# EAGLE library part PCI-120-1.27MM-REC-SMT (library con-amp-te-pci)
TE CONNECTIVITY / AMP: 5145098-1 Connector, PCI Series, Card Edge, Receptacle, 120 pin, 1.27 mm, Surface Mount No. of Contacts: 120 Contact Plating: Gold Plated Contacts Gender: Receptacle Row Pitch: - Connector Type: Card Edge Contact Material: Phosphor Bronze Product Range: PCI Series Contact Termination Type: Surface Mount Pitch Spacing: 1.27mm No. of Rows: 2 Digikey: A97907-ND Mouser: 571-5145098-1 Element14: 2452387
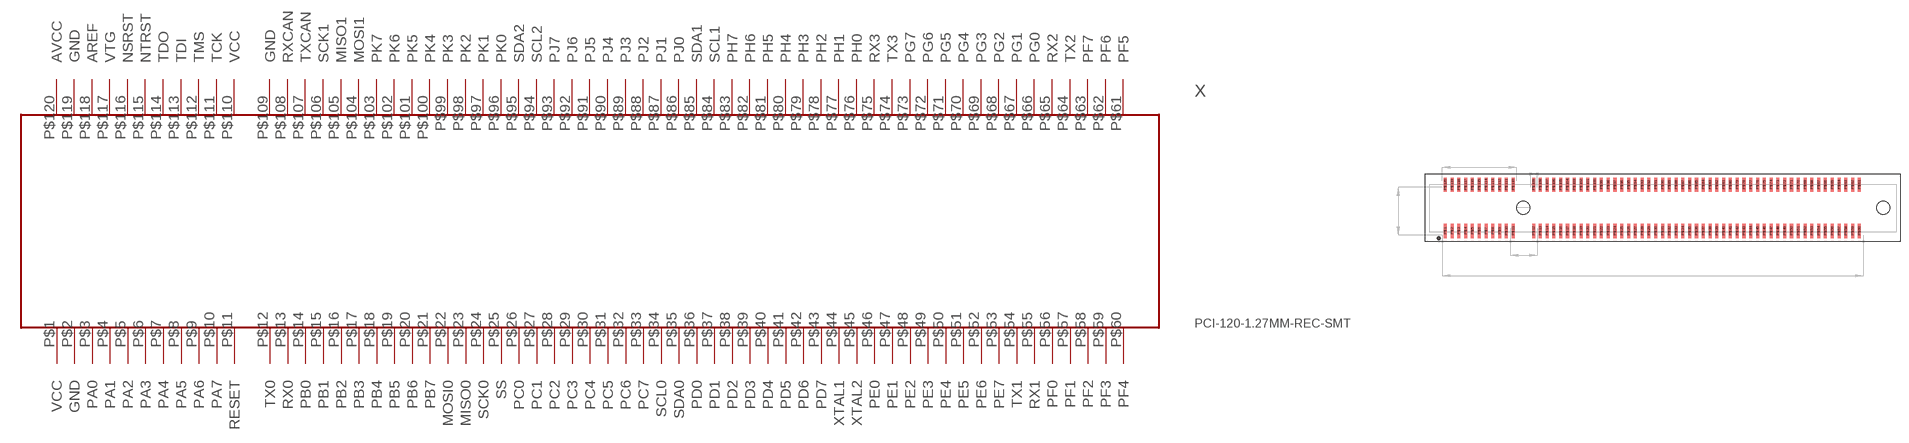
[diagram p0: symbol with the pads of PCI-120-1.27MM-REC-SMT; footprint PCI-120-1.27MM-REC-SMT]

Designator prefix X

## PCI-120-1.27MM-REC-SMT  [PCI-120-1.27MM-REC-SMT]
P$1  VCC  pwr
P$2  GND  pwr
P$3  PA0
P$4  PA1
P$5  PA2
P$6  PA3
P$7  PA4
P$8  PA5
P$9  PA6
P$10  PA7
P$11  RESET
P$12  TX0
P$13  RX0
P$14  PB0
P$15  PB1
P$16  PB2
P$17  PB3
P$18  PB4
P$19  PB5
P$20  PB6
P$21  PB7
P$22  MOSI0
P$23  MISO0
P$24  SCK0
P$25  SS
P$26  PC0
P$27  PC1
P$28  PC2
P$29  PC3
P$30  PC4
P$31  PC5
P$32  PC6
P$33  PC7
P$34  SCL0
P$35  SDA0
P$36  PD0
P$37  PD1
P$38  PD2
P$39  PD3
P$40  PD4
P$41  PD5
P$42  PD6
P$43  PD7
P$44  XTAL1
P$45  XTAL2
P$46  PE0
P$47  PE1
P$48  PE2
P$49  PE3
P$50  PE4
P$51  PE5
P$52  PE6
P$53  PE7
P$54  TX1
P$55  RX1
P$56  PF0
P$57  PF1
P$58  PF2
P$59  PF3
P$60  PF4
P$61  PF5
P$62  PF6
P$63  PF7
P$64  TX2
P$65  RX2
P$66  PG0
P$67  PG1
P$68  PG2
P$69  PG3
P$70  PG4
P$71  PG5
P$72  PG6
P$73  PG7
P$74  TX3
P$75  RX3
P$76  PH0
P$77  PH1
P$78  PH2
P$79  PH3
P$80  PH4
P$81  PH5
P$82  PH6
P$83  PH7
P$84  SCL1
P$85  SDA1
P$86  PJ0
P$87  PJ1
P$88  PJ2
P$89  PJ3
P$90  PJ4
P$91  PJ5
P$92  PJ6
P$93  PJ7
P$94  SCL2
P$95  SDA2
P$96  PK0
P$97  PK1
P$98  PK2
P$99  PK3
P$100  PK4
P$101  PK5
P$102  PK6
P$103  PK7
P$104  MOSI1
P$105  MISO1
P$106  SCK1
P$107  TXCAN
P$108  RXCAN
P$109  GND  pwr
P$110  VCC  pwr
P$111  TCK
P$112  TMS
P$113  TDI
P$114  TDO
P$115  NTRST
P$116  NSRST
P$117  VTG  pwr
P$118  AREF  pwr
P$119  GND  pwr
P$120  AVCC  pwr

## Footprint PCI-120-1.27MM-REC-SMT (pad centres in mm)
smd 0.762 x 2.667: P$1 -40.703,-4.318; P$2 -39.434,-4.318; P$3 -38.163,-4.318; P$4 -36.894,-4.318; P$5 -35.623,-4.318; P$6 -34.353,-4.318; P$7 -33.084,-4.318; P$8 -31.814,-4.318; P$9 -30.544,-4.318; P$10 -29.273,-4.318; P$11 -28.003,-4.318; P$12 -24.194,-4.318; P$13 -22.924,-4.318; P$14 -21.654,-4.318; P$15 -20.384,-4.318; P$16 -19.113,-4.318; P$17 -17.843,-4.318; P$18 -16.573,-4.318; P$19 -15.303,-4.318; P$20 -14.034,-4.318; P$21 -12.764,-4.318; P$22 -11.493,-4.318; P$23 -10.223,-4.318; P$24 -8.954,-4.318; P$25 -7.684,-4.318; P$26 -6.413,-4.318; P$27 -5.144,-4.318; P$28 -3.873,-4.318; P$29 -2.603,-4.318; P$30 -1.333,-4.318; P$31 -0.064,-4.318; P$32 1.206,-4.318; P$33 2.477,-4.318; P$34 3.747,-4.318; P$35 5.016,-4.318; P$36 6.287,-4.318; P$37 7.556,-4.318; P$38 8.826,-4.318; P$39 10.097,-4.318; P$40 11.367,-4.318; P$41 12.636,-4.318; P$42 13.906,-4.318; P$43 15.177,-4.318; P$44 16.447,-4.318; P$45 17.716,-4.318; P$46 18.986,-4.318; P$47 20.256,-4.318; P$48 21.526,-4.318; P$49 22.797,-4.318; P$50 24.067,-4.318; P$51 25.337,-4.318; P$52 26.607,-4.318; P$53 27.877,-4.318; P$54 29.146,-4.318; P$55 30.416,-4.318; P$56 31.686,-4.318; P$57 32.956,-4.318; P$58 34.227,-4.318; P$59 35.496,-4.318; P$60 36.767,-4.318; P$61 36.767,4.318; P$62 35.496,4.318; P$63 34.227,4.318; P$64 32.956,4.318; P$65 31.686,4.318; P$66 30.416,4.318; P$67 29.146,4.318; P$68 27.877,4.318; P$69 26.607,4.318; P$70 25.337,4.318; P$71 24.067,4.318; P$72 22.797,4.318; P$73 21.526,4.318; P$74 20.256,4.318; P$75 18.986,4.318; P$76 17.716,4.318; P$77 16.447,4.318; P$78 15.177,4.318; P$79 13.906,4.318; P$80 12.636,4.318; P$81 11.367,4.318; P$82 10.097,4.318; P$83 8.826,4.318; P$84 7.556,4.318; P$85 6.287,4.318; P$86 5.016,4.318; P$87 3.747,4.318; P$88 2.477,4.318; P$89 1.206,4.318; P$90 -0.064,4.318; P$91 -1.333,4.318; P$92 -2.603,4.318; P$93 -3.873,4.318; P$94 -5.144,4.318; P$95 -6.413,4.318; P$96 -7.684,4.318; P$97 -8.954,4.318; P$98 -10.223,4.318; P$99 -11.493,4.318; P$100 -12.764,4.318; P$101 -14.034,4.318; P$102 -15.303,4.318; P$103 -16.573,4.318; P$104 -17.843,4.318; P$105 -19.113,4.318; P$106 -20.384,4.318; P$107 -21.654,4.318; P$108 -22.924,4.318; P$109 -24.194,4.318; P$110 -28.003,4.318; P$111 -29.273,4.318; P$112 -30.544,4.318; P$113 -31.814,4.318; P$114 -33.084,4.318; P$115 -34.353,4.318; P$116 -35.623,4.318; P$117 -36.894,4.318; P$118 -38.163,4.318; P$119 -39.434,4.318; P$120 -40.703,4.318
hole 2.438 at -26.099,0
hole 2.438 at 41.212,0